# Altium footprint library PcbLib1.PcbLib: 12 footprints
Each footprint in its own frame and in the unit in brackets; x right, y up, seen from the top. Pads: shape width x height; smd on the part's side, far side on the other; paste and mask are expansions set on the pad; w line width, h text height; cw(c..) or ccw(c..) is an arc to the next point about the centre after c.
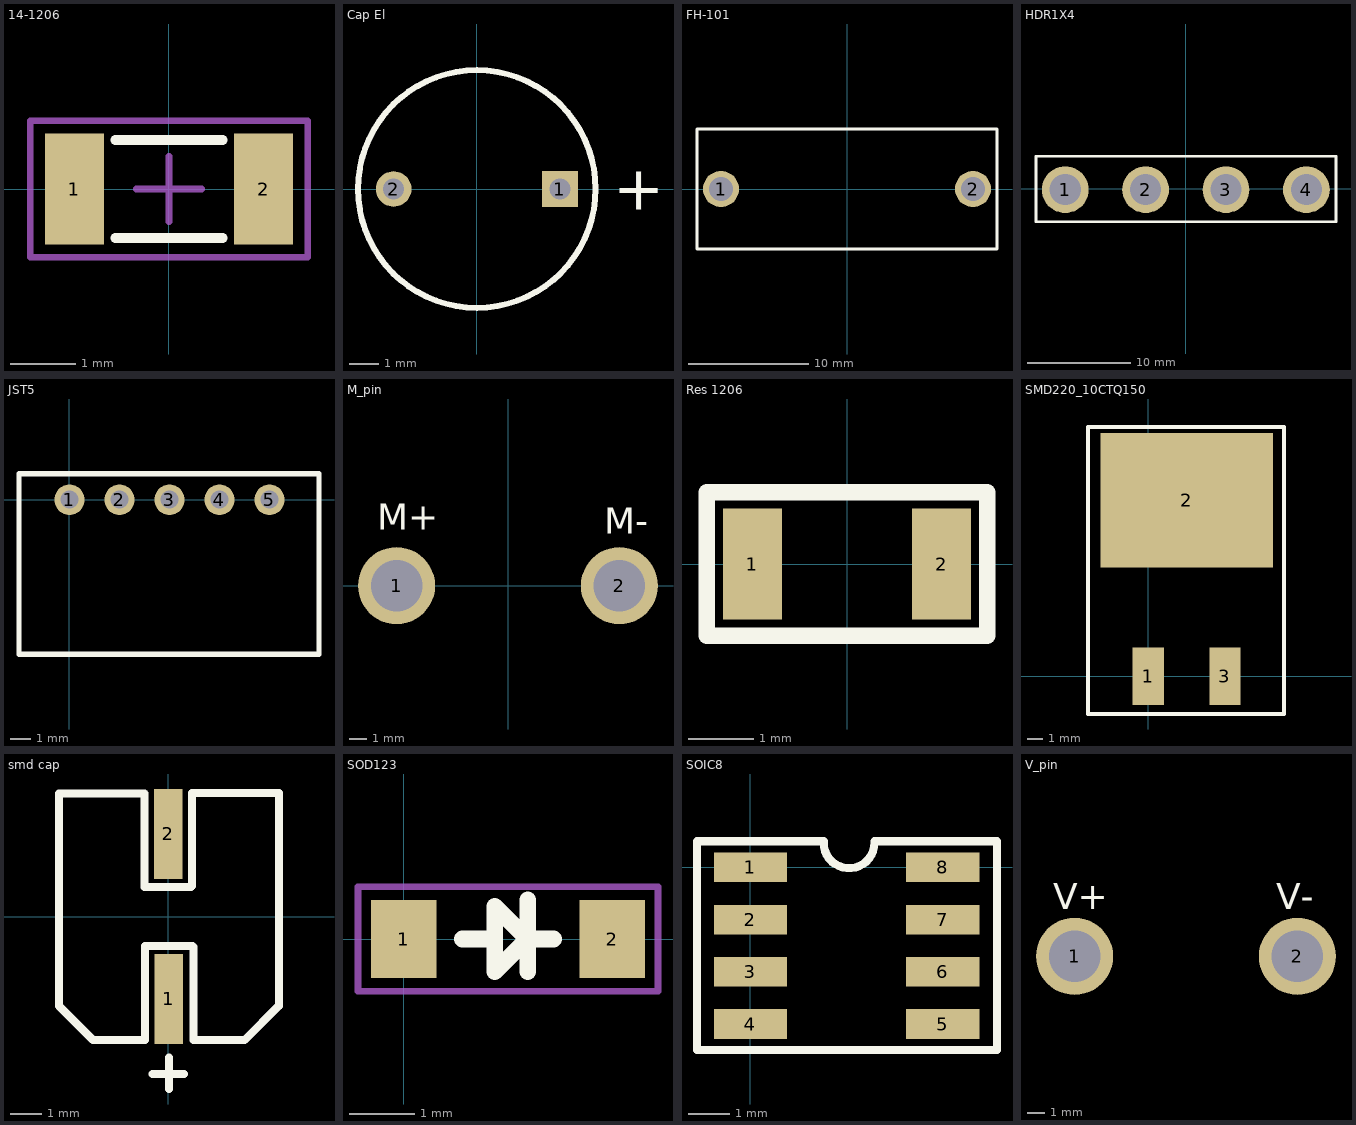
[diagram p0: the footprints below, top view; thin cyan lines are the x and y axes]

## 14-1206 [mm] "Chip Resistor, Body 3.2x2.5mm, IPC High Density"
height 0.9
pads (2):
  rect 0.9x1.7 smd: 1(-1.45,0) 2(1.45,0)
Top Overlay:
  lines w0.15: -0.825,-0.75 0.825,-0.75 ; -0.825,0.75 0.825,0.75
Mechanical 15:
  lines w0.1: -0.5,0 0.5,0 ; 0,-0.5 0,0.5 ; -2.125,-1.05 2.125,-1.05 2.125,1.05 -2.125,1.05 -2.125,-1.05

## Cap El [mm] "Polarized Capacitor (Radial); 2 Leads"
pads (2):
  rect 1.2x1.2 hole 0.7: 1(2.8,0)
  round 1.2 hole 0.7: 2(-2.8,0)
Top Overlay:
  circle w0.2: c0,0 r4
  text "+" at 4.6,-0.7 h1.5

## FH-101 [mm]
pads (2):
  round 3 hole 2 paste+0.1: 1(-10.5,0) 2(10.5,0)
Top Overlay:
  lines w0.254: -12.5,-5 -12.5,5 12.5,5 12.5,-5 -12.5,-5

## HDR1X4 [mm] "Connector; Header; 4 Position"
pads (4):
  round 4.5 hole 3 mask+0.2: 1(-11.625,-0.075) 2(-3.888,-0.075) 3(3.85,-0.075) 4(11.588,-0.075)
Top Overlay:
  lines w0.254: -14.437,-3.15 -14.437,3.125 14.437,3.125 14.437,-3.15 -14.437,-3.15 ; -14.437,-3.15 -14.437,-3.15

## JST5 [mil]
pads (5):
  round 60 hole 35.43: 1(0,0) 2(98.43,0) 3(196.85,0) 4(295.28,0) 5(393.7,0)
Top Overlay:
  lines w10: -99.41,50.2 -99.41,-304.13 491.14,-304.13 491.14,50.2 ; -99.41,51.18 491.14,51.18

## M_pin [mm]
pads (2):
  round 4.5 hole 3 mask+0.2: 1(-6.5,0) 2(6.5,0)
Top Overlay:
  text "M+" at -7.621,3.254 h1.52
  text "M-" at 5.629,3.029 h1.52

## Res 1206 [mm]
pads (2):
  rect 0.9x1.7 smd: 1(-1.45,0) 2(1.45,0)
Top Overlay:
  lines w0.254: -2.15,-1.1 -2.15,1.1 2.15,1.1 2.15,-1.1 -2.15,-1.1

## SMD220_10CTQ150 [mm]
height 6.47
pads (3):
  rect 2.08x3.81 smd paste+0.1: 1(0,0) 3(5.08,0)
  rect 11.43x8.89 smd paste+0.1: 2(2.54,11.65)
Top Overlay:
  lines w0.254: -4,-2.5 9,-2.5 9,16.5 -4,16.5 -4,-2.5
3D body: height 4.69, standoff 0, extent -2.5,4.5 7.5,13.5
3D body: height 1.32, standoff 0, extent -2.5,13.5 7.5,14.5
3D body: height 1.32, standoff 0, extent -0.5,1 0.5,4.5
3D body: height 1.32, standoff 0, extent -0.3,-0.5 0.3,1
3D body: height 1.32, standoff 0, extent 4.5,1 5.5,4.5
3D body: height 1.32, standoff 0, extent 4.7,-0.5 5.3,1

## smd cap [mm]
pads (2):
  rect 0.9x2.85 smd: 1(0.013,-2.612) 2(-0.012,2.613)
Top Overlay:
  lines w0.254: -0.737,-3.912 -2.388,-3.912 -3.462,-2.838 -3.462,3.888 -0.762,3.888 -0.762,0.938 0.713,0.938 0.738,0.963 0.738,3.913 ; -0.737,-3.887 -0.737,-0.937 ; -0.712,-0.937 0.763,-0.937 ; -0.512,-4.987 0.488,-4.987 ; 0.013,-5.462 0.013,-4.462 ; 0.754,3.913 3.454,3.913 ; 0.788,-0.962 0.788,-3.912 2.413,-3.912 3.487,-2.838 ; 3.495,-2.83 3.495,3.913

## SOD123 [mm]
pads (2):
  rect 1x1.2 smd: 1(0,0) 2(3.2,0)
Top Overlay:
  lines w0.254: 0.9,0 1.4,0 ; 1.9,-0.5 1.9,0.6 ; 2.3,0 1.9,0 ; 1.4,0 1.4,-0.5 1.9,0 ; 1.4,0 1.4,0.5 1.9,0
Mechanical 15:
  lines w0.1: -0.7,-0.8 -0.7,0.8 3.9,0.8 3.9,-0.8 -0.7,-0.8

## SOIC8 [mm]
pads (8):
  rect 1.78x0.72 smd: 1(0,0) 2(0,-1.27) 3(0,-2.54) 4(0,-3.81) 5(4.68,-3.81) 6(4.68,-2.54) 7(4.68,-1.27) 8(4.68,0)
Top Overlay:
  lines w0.2: 1.782,0.6 ccw(c2.4,0.6) 3.018,0.6 ; 1.782,0.635 -1.3,0.635 -1.3,-4.445 6,-4.445 6,0.635 3.018,0.635
3D body: height 0.85, standoff 0, extent 5.425,-4.25 5.575,-3.35
3D body: height 0.85, standoff 0, extent 5.425,-2.975 5.575,-2.075
3D body: height 0.85, standoff 0, extent 5.425,-1.725 5.575,-0.825
3D body: height 0.85, standoff 0, extent 5.425,-0.45 5.575,0.45
3D body: height 0.85, standoff 0, extent -0.9,-4.25 -0.75,-3.35
3D body: height 0.85, standoff 0, extent -0.9,-2.975 -0.75,-2.075
3D body: height 0.85, standoff 0, extent -0.9,-1.725 -0.75,-0.825
3D body: height 0.85, standoff 0, extent -0.9,-0.45 -0.75,0.45
3D body: height 1.75, standoff 0, extent -0.75,-4.45 5.425,0.625

## V_pin [mm]
pads (2):
  round 4.5 hole 3 mask+0.2: 1(-642.5,100) 2(-629.5,100)
Top Overlay:
  text "V+" at -643.746,102.754 h1.52
  text "V-" at -630.746,102.754 h1.52